# EAGLE library part 1X10 (library Ai_Connectors)
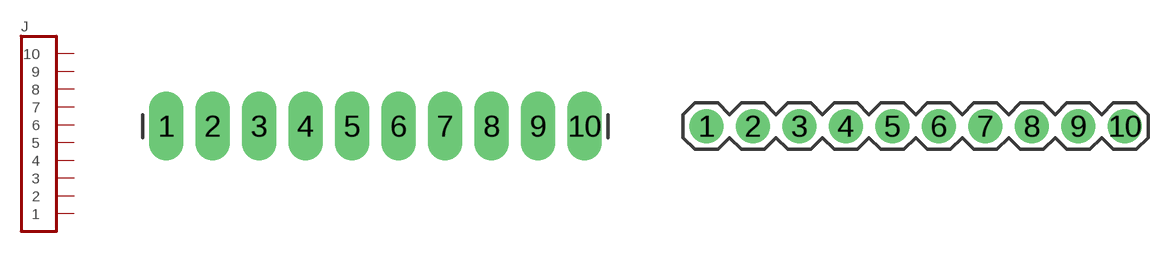
[diagram p2: symbol with the pads of 1X10-LONG; footprints 1X10-LONG, 1X10]

Designator prefix J

## 1X10LONG  [1X10-LONG]
1  1
2  2
3  3
4  4
5  5
6  6
7  7
8  8
9  9
10  10

## 1X10  [1X10]
Pads as for 1X10-LONG

## 1X10SMD  [1X10-SMD]
Pads as for 1X10-LONG

## 1X10NOFIRST  [1X10-NOFIRST]
Pads as for 1X10-LONG

## 1X10NFNS  [1X10-NFNS]
Pads as for 1X10-LONG

## Footprint 1X10-LONG (pad centres in mm)
drill 1.118 pad 1.88 long: 1 -11.43,0; 2 -8.89,0; 3 -6.35,0; 4 -3.81,0; 5 -1.27,0; 6 1.27,0; 7 3.81,0; 8 6.35,0; 9 8.89,0; 10 11.43,0

## Footprint 1X10 (pad centres in mm)
drill 1.016 pad 1.88: 1 -11.43,0; 2 -8.89,0; 3 -6.35,0; 4 -3.81,0; 5 -1.27,0; 6 1.27,0; 7 3.81,0; 8 6.35,0; 9 8.89,0; 10 11.43,0

## Footprint 1X10-SMD (pad centres in mm)
smd 1.27 x 5.334: 1 -11.43,-2.032; 2 -8.89,2.032; 3 -6.35,-2.032; 4 -3.81,2.032; 5 -1.27,-2.032; 6 1.27,2.032; 7 3.81,-2.032; 8 6.35,2.032; 9 8.89,-2.032; 10 11.43,2.032

## Footprint 1X10-NOFIRST (pad centres in mm)
drill 1.016 pad 1.88: 1 -11.43,0; 2 -8.89,0; 3 -6.35,0; 4 -3.81,0; 5 -1.27,0; 6 1.27,0; 7 3.81,0; 8 6.35,0; 9 8.89,0; 10 11.43,0

## Footprint 1X10-NFNS (pad centres in mm)
drill 1.016 pad 1.88: 1 -11.43,0; 2 -8.89,0; 3 -6.35,0; 4 -3.81,0; 5 -1.27,0; 6 1.27,0; 7 3.81,0; 8 6.35,0; 9 8.89,0; 10 11.43,0